# EAGLE library part UX60SC (library zz-upenn)
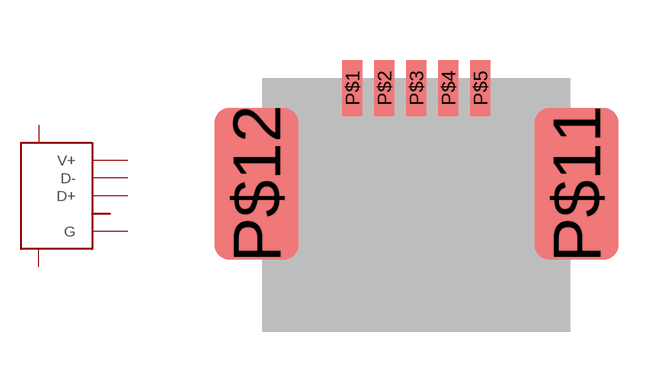
[diagram p6: symbol with the pads of UX60SC-MB-5ST; footprint UX60SC-MB-5ST]

Designator prefix -

## UX60SC  [UX60SC-MB-5ST]
P$1  V+
P$2  D-
P$3  D+
P$5  G
P$11  G1
P$12  G2

## Footprint UX60SC-MB-5ST (pad centres in mm)
smd 0.5 x 1.4: P$1 -1.6,6.1; P$2 -0.8,6.1; P$3 0,6.1; P$4 0.8,6.1; P$5 1.6,6.1
smd 2.1 x 3.8: P$11 4,3.7; P$12 -4,3.7